# Altium footprint library XH2.54-2P_2024-04-30.PcbLib: 1 footprints
Each footprint in its own frame and in the unit in brackets; x right, y up, seen from the top. Pads: shape width x height; smd on the part's side, far side on the other; paste and mask are expansions set on the pad; w line width, h text height; cw(c..) or ccw(c..) is an arc to the next point about the centre after c.
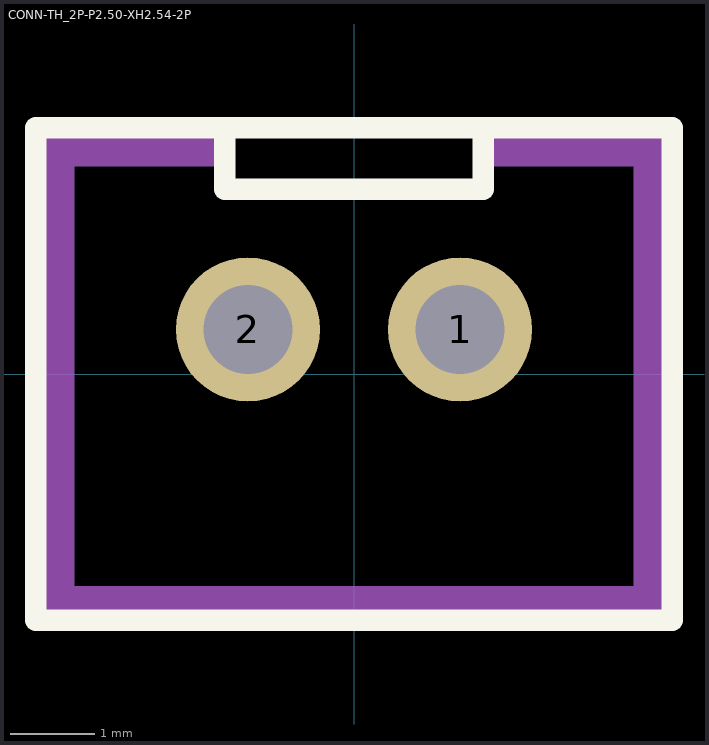
[diagram p0: the footprint, top view; thin cyan lines are the x and y axes]

## CONN-TH_2P-P2.50-XH2.54-2P [mm]
pads (2):
  round 1.7 hole 1.05 paste+0 mask+0.05: 1(1.25,0.525) 2(-1.25,0.525)
Top Overlay:
  lines w0.254: -1.524,2.811 -1.524,2.176 1.524,2.176 1.524,2.9 ; -0.827,2.9 -0.588,2.9 ; -3.75,-2.9 -3.75,2.9 3.75,2.9 3.75,-2.9 -3.75,-2.9
Mechanical 15:
  region: 3.75,2.851 3.75,-2.899 -3.75,-2.899 -3.75,2.851 -1.5,2.851 -1.5,2.451 -3.3,2.451 -3.3,-2.499 3.3,-2.499 3.3,2.451 1.5,2.451 1.5,2.851